# EAGLE library part AS1322 (library austriamicrosystems_as1322)
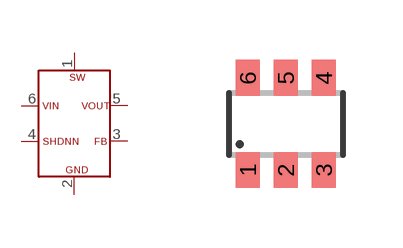
[diagram p0: symbol with the pads of SOT23-6; footprint SOT23-6]

Designator prefix IC

## AS1322  [SOT23-6]
1  SW  in
2  GND  pwr
3  FB  in
4  SHDNN  in
5  VOUT  pwr
6  VIN  pwr

## Footprint SOT23-6 (pad centres in mm)
Small Outline Transistor 6 lead
smd 0.6 x 0.9: 1 -0.95,-1.15; 2 0,-1.15; 3 0.95,-1.15; 4 0.95,1.15; 5 0,1.15; 6 -0.95,1.15